# Altium footprint library SMD_LED.PcbLib: 2 footprints
Each footprint in its own frame and in the unit in brackets; x right, y up, seen from the top. Pads: shape width x height; smd on the part's side, far side on the other; paste and mask are expansions set on the pad; w line width, h text height; cw(c..) or ccw(c..) is an arc to the next point about the centre after c.
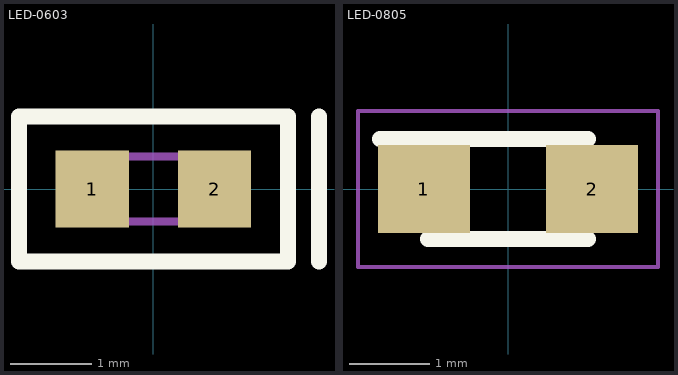
[diagram p0: the footprints below, top view; thin cyan lines are the x and y axes]

## LED-0603 [mm]
pads (2):
  rect 0.9x0.95 smd: 1(-0.75,0) 2(0.75,0)
Top Overlay:
  lines w0.2: 2.032,-0.889 2.032,0.889 ; -1.651,-0.889 1.651,-0.889 1.651,0.889 -1.651,0.889 -1.651,-0.889
Mechanical 13:
  lines w0.1: -0.8,0.133 -0.533,0.4 ; -0.8,-0.4 0.8,-0.4 0.8,0.4 -0.8,0.4 -0.8,-0.4
Mechanical 15:
  lines w0.05: -1.65,-0.925 1.65,-0.925 1.65,0.925 -1.65,0.925 -1.65,-0.925
3D body "150060GS55040.stp": height 0.4, standoff 0, extent -0.8,-0.4 0.8,0.4

## LED-0805 [mm]
pads (2):
  rect 1.15x1.1 smd: 1(-1.05,0) 2(1.05,0)
Top Overlay:
  lines w0.2: -1.6,0.625 1,0.625 ; -1,-0.625 1,-0.625
Mechanical 13:
  lines w0.1: -1,0.075 -0.45,0.625 ; -1,-0.625 -1,0.625 1,0.625 1,-0.625 -1,-0.625
Mechanical 15:
  lines w0.05: -1.875,-0.975 -1.875,0.975 1.875,0.975 1.875,-0.975 -1.875,-0.975
3D body "599-0110-007F.stp": height 0.7, standoff 0, extent -1,-0.625 1,0.625